# Altium schematic symbol library DAC.SchLib: 1 symbol
Pins are listed as number, name and electrical type; pins without a type are passive.

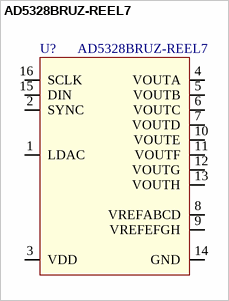
[diagram p0: symbol AD5328BRUZ-REEL7]

## AD5328BRUZ-REEL7
designator U?
pins: 1 LDAC, 2 SYNC, 3 VDD, 4 VOUTA, 5 VOUTB, 6 VOUTC, 7 VOUTD, 8 VREFABCD, 9 VREFEFGH, 10 VOUTE, 11 VOUTF, 12 VOUTG, 13 VOUTH, 14 GND, 15 DIN, 16 SCLK